# Altium footprint library 1x2 Molex.PcbLib: 1 footprints
Each footprint in its own frame and in the unit in brackets; x right, y up, seen from the top. Pads: shape width x height; smd on the part's side, far side on the other; paste and mask are expansions set on the pad; w line width, h text height; cw(c..) or ccw(c..) is an arc to the next point about the centre after c.
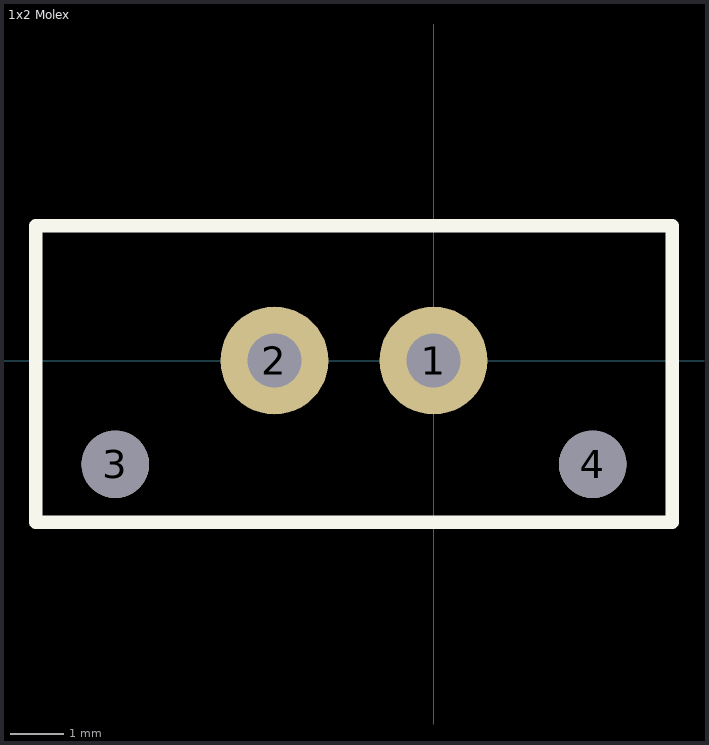
[diagram p0: the footprint, top view; thin cyan lines are the x and y axes]

## 1x2 Molex [mil]
height 390
pads (4):
  round 80 hole 40: 1(0,0) 2(-118,0)
  round 50 hole 50 unplated: 3(-236,-77) 4(118,-77)
Top Overlay:
  lines w10: -295,-120 -295,100 177,100 177,-120 -295,-120
Mechanical 4:
  text "0.175" at 0,-35.32 h1